# EAGLE library part L830-1J1T-47 (library other)
Bel Fuse Inc.
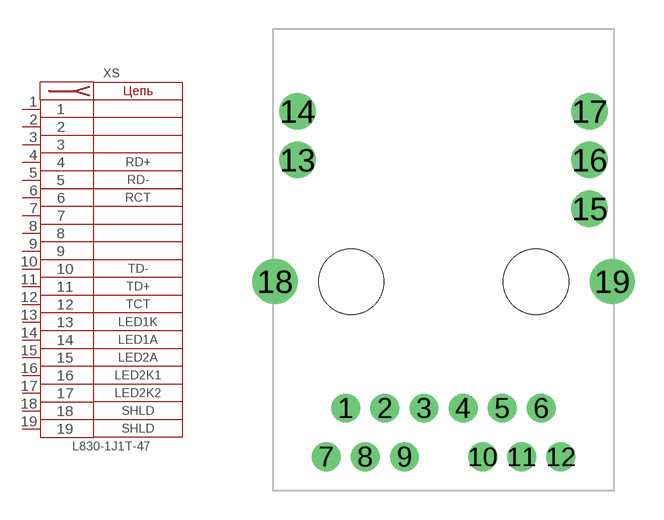
[diagram p5: symbol with the pads of L830-1J1T-47; footprint L830-1J1T-47]

Designator prefix XS

## L830-1J1T-47  [L830-1J1T-47]
1  1  pas
2  2  pas
3  3  pas
4  4  pas
5  5  pas
6  6  pas
7  7  pas
8  8  pas
9  9  pas
10  10  pas
11  11  pas
12  12  pas
13  13  pas
14  14  pas
15  15  pas
16  16  pas
17  17  pas
18  18  pas
19  19  pas

## Footprint L830-1J1T-47 (pad centres in mm)
drill 1: 1 -5.1,-7.62; 2 -3.06,-7.62; 3 -1.02,-7.62; 4 1.02,-7.62; 5 3.06,-7.62; 6 5.1,-7.62; 7 -6.12,-10.16; 8 -4.08,-10.16; 9 -2.04,-10.16; 10 2.04,-10.16; 11 4.08,-10.16; 12 6.12,-10.16
drill 1.27: 13 -7.62,5.334; 14 -7.62,7.874; 15 7.62,2.794; 16 7.62,5.334; 17 7.62,7.874
drill 1.575: 18 -8.8,-1.01; 19 8.8,-1.01
hole 3.4 at 4.82,-1.02
hole 3.4 at -4.82,-1.02